# Altium footprint library Robot_2020.PcbLib: 89 footprints (part 2 of 6)
Each footprint in its own frame and in the unit in brackets; x right, y up, seen from the top. Pads: shape width x height; smd on the part's side, far side on the other; paste and mask are expansions set on the pad; w line width, h text height; cw(c..) or ccw(c..) is an arc to the next point about the centre after c.
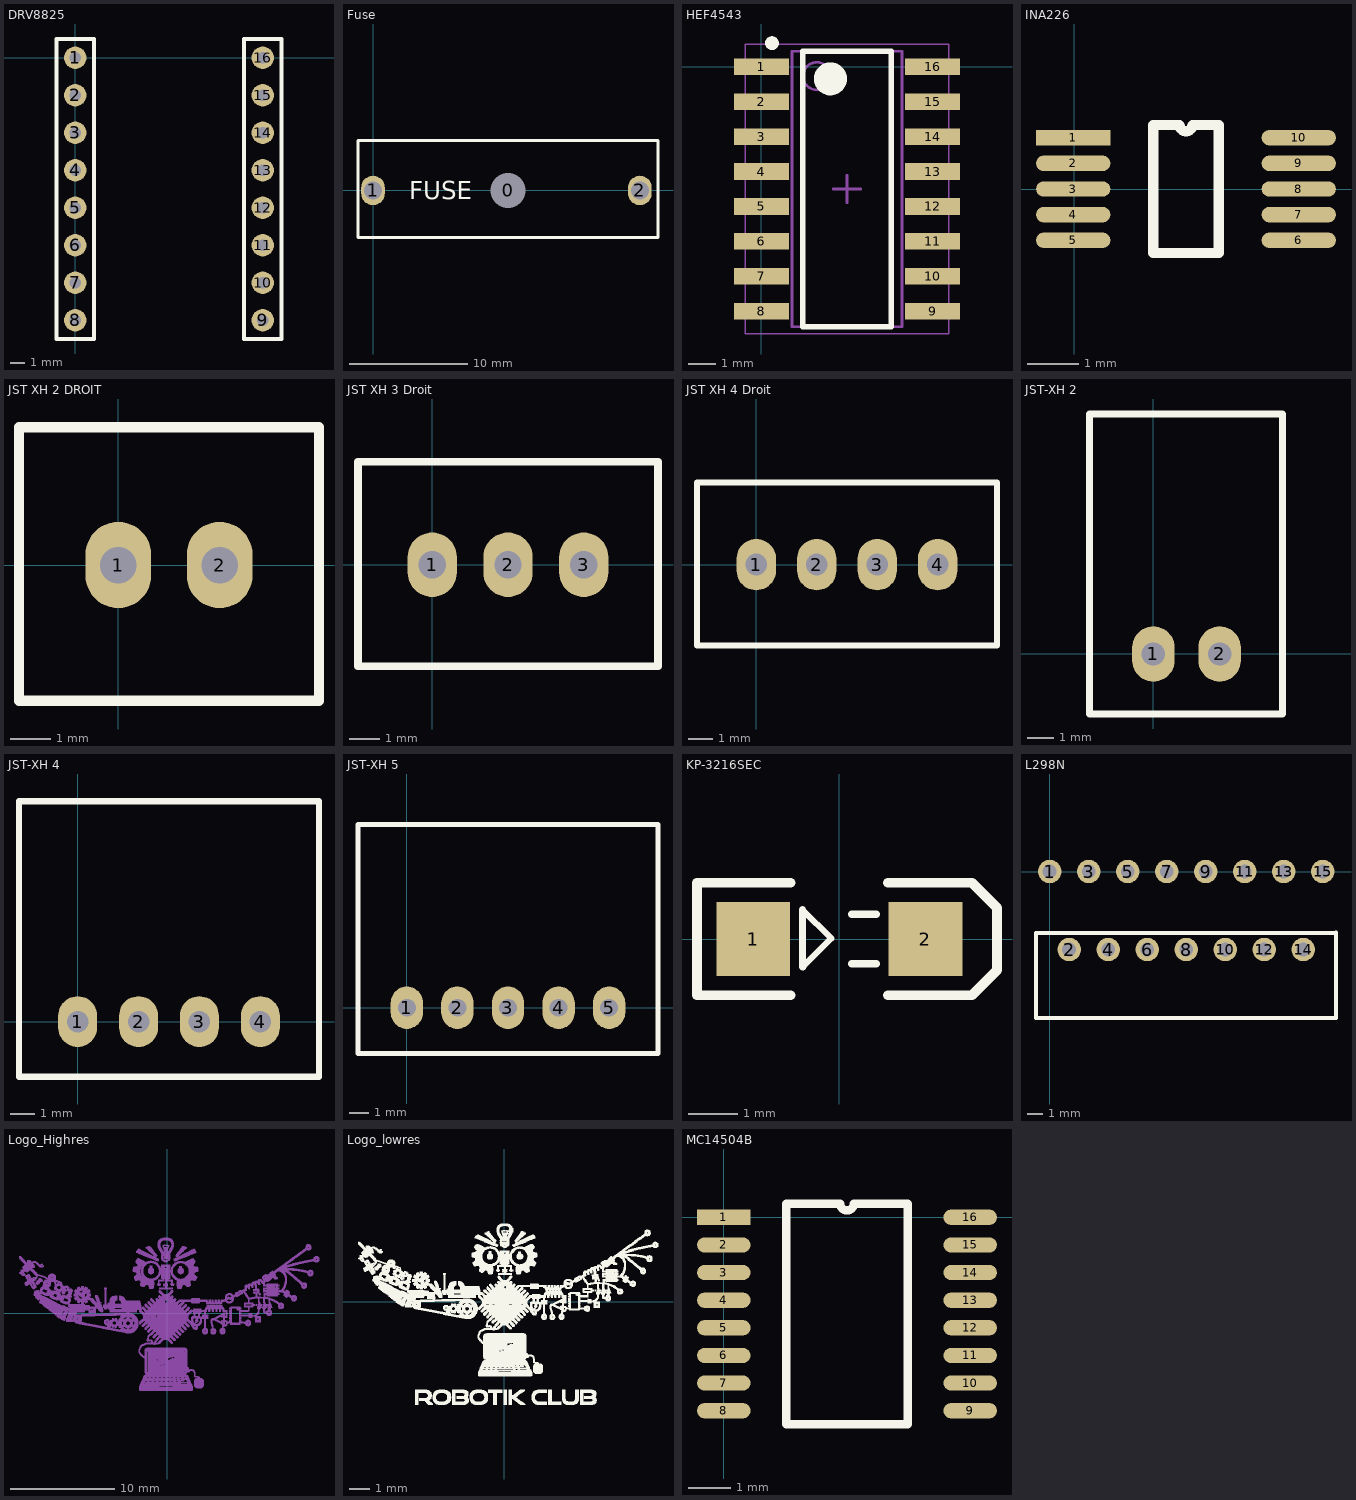
[diagram p1: the footprints below, top view; thin cyan lines are the x and y axes]

## DRV8825 [mil] "Stepper Driver"
pads (16):
  round 60 hole 31.5: 1(0,0) 2(0,-100) 3(0,-200) 4(0,-300) 5(0,-400) 6(0,-500) 7(0,-600) 8(0,-700) 9(500,-700) 10(500,-600) 11(500,-500) 12(500,-400) 13(500,-300) 14(500,-200) 15(500,-100) 16(500,0)
Top Overlay:
  lines w10: -50,-750 -50,50 50,50 50,-750 -50,-750 ; 450,-750 450,50 550,50 550,-750 450,-750
3D body "DRV8825_2.STEP": height 445.74, standoff 16.6, extent -45.72,-763.84 544.83,62.93
3D body: height 236.22, standoff 0, extent 450,-750 550,50
3D body: height 236.22, standoff 0, extent -50,-750 50,50

## Fuse [mm] "Porte-fusible monté sur circuit 10 (UL) A, 6.3 (VDE) A, fusible Cartouche, 893-0574"
height 13.5
pads (3):
  round 2 hole 3: 0(11.43,0)
  oval 2x2.5 hole 1.5: 1(0,0) 2(22.6,0)
Top Overlay:
  lines w0.254: -1.27,-4 24.13,-4 24.13,4.25 -1.27,4.25 -1.27,-4
  text "FUSE" at 3.048,-0.762 h1.52
3D body: height 10, standoff 4, extent 0.43,-3.048 22.43,2.952
3D body "FuseHolder.stp": height 11.41, standoff -3.54, extent -1.27,-4.064 6.858,4.286
3D body "FuseHolder.stp": height 11.41, standoff -3.54, extent 16.002,-4.286 24.13,4.064

## HEF4543 [mm] "SOP, 16-Leads, Body 9,90x3,90mm, Pitch 1,27mm, IPC Medium Density"
height 1.75
pads (16):
  rect 2x0.6 smd: 1(0,0) 2(0,-1.27) 3(0,-2.54) 4(0,-3.81) 5(0,-5.08) 6(0,-6.35) 7(0,-7.62) 8(0,-8.89) 9(6.212,-8.89) 10(6.212,-7.62) 11(6.212,-6.35) 12(6.212,-5.08) 13(6.212,-3.81) 14(6.212,-2.54) 15(6.212,-1.27) 16(6.212,0)
Top Overlay:
  circle w0.6: c2.506,-0.445 r0.3
  circle w0.25: c0.381,0.85 r0.125
  lines w0.2: 1.506,-9.445 4.706,-9.445 4.706,0.555 1.506,0.555 1.506,-9.445
Mechanical 13:
  circle w0.1: c2.006,-0.345 r0.5
  lines w0.1: 1.106,-9.445 5.106,-9.445 5.106,0.555 1.106,0.555 1.106,-9.445
Mechanical 15:
  lines w0.05: -0.594,-9.695 6.806,-9.695 6.806,0.805 -0.594,0.805 -0.594,-9.695
  lines w0.1: 2.606,-4.445 3.606,-4.445 ; 3.106,-4.945 3.106,-3.945
3D body: height 1.75, standoff 0.25, extent 1.106,-9.445 5.106,0.555

## INA226 [mm]
pads (10):
  rect 1.45x0.3 smd: 1(-0.025,1)
  oval 1.45x0.3 smd: 2(-0.025,0.5) 3(-0.025,0) 4(-0.025,-0.5) 5(-0.025,-1) 6(4.375,-1) 7(4.375,-0.5) 8(4.375,0) 9(4.375,0.5) 10(4.375,1)
Top Overlay:
  lines w0.2: 1.535,-1.25 1.535,1.25 2.05,1.25 ccw(c2.175,1.25) 2.3,1.25 2.815,1.25 2.815,-1.25 1.535,-1.25

## JST XH 2 DROIT [mm]
pads (2):
  oval 1.624x2.132 hole 0.9: 1(0,0) 2(2.5,0)
Top Overlay:
  lines w0.254: -2.45,-3.35 -2.45,3.4 4.95,3.4 4.95,-3.35 -2.45,-3.35

## JST XH 3 Droit [mm]
pads (3):
  oval 1.624x2.132 hole 0.9: 1(0,0) 2(2.5,0) 3(5,0)
Top Overlay:
  lines w0.254: -2.45,-3.35 -2.45,3.4 7.45,3.4 7.45,-3.35 -2.45,-3.35

## JST XH 4 Droit [mm]
pads (4):
  oval 1.624x2.132 hole 0.9: 1(0,0) 2(2.5,0) 3(5,0) 4(7.5,0)
Top Overlay:
  lines w0.254: -2.45,-3.35 9.95,-3.35 9.95,3.4 -2.45,3.4 -2.45,-3.35

## JST-XH 2 [mm]
pads (2):
  oval 1.624x2.132 hole 0.9: 1(0,0) 2(2.54,0)
Top Overlay:
  lines w0.254: -2.45,-2.3 -2.45,9.2 4.95,9.2 4.95,-2.3 -2.45,-2.3

## JST-XH 4 [mm]
pads (4):
  oval 1.624x2.132 hole 0.9: 1(0,0) 2(2.54,0) 3(5.08,0) 4(7.62,0)
Top Overlay:
  lines w0.254: -2.45,-2.3 10.07,-2.3 10.07,9.2 -2.45,9.2 -2.45,-2.3

## JST-XH 5 [mm]
pads (5):
  oval 1.624x2.132 hole 0.9: 1(0,0) 2(2.54,0) 3(5.08,0) 4(7.62,0) 5(10.16,0)
Top Overlay:
  lines w0.254: -2.45,-2.3 -2.45,9.2 12.61,9.2 12.61,-2.3 -2.45,-2.3

## KP-3216SEC [mm]
pads (2):
  rect 1.5x1.5 smd: 1(-1.75,0) 2(1.75,0)
Top Overlay:
  lines w0.127: -0.75,0.598 -0.165,0.013 -0.743,-0.565
  lines w0.15: -0.75,0.598 -0.75,-0.559 -0.743,-0.565 ; 0.25,-0.5 0.75,-0.5 ; 0.25,0.5 0.75,0.5
  lines w0.2: -0.988,-1.143 -2.893,-1.143 -2.893,1.143 -0.988,1.143 ; 0.988,-1.143 2.695,-1.143 3.203,-0.635 3.203,0.635 2.695,1.143 0.988,1.143
3D body "LED 1206 Yel.stp": height 1.1, standoff 0, extent -1.699,-0.787 1.501,0.813

## L298N [mil] "Motor driver, 2 channel"
pads (15):
  round 60 hole 35.43: 1(0,0) 2(50,-200) 3(100,0) 4(150,-200) 5(200,0) 6(250,-200) 7(300,0) 8(350,-200) 9(400,0) 10(450,-200) 11(500,0) 12(550,-200) 13(600,0) 14(650,-200) 15(700,0)
Top Overlay:
  lines w10: -35,-158 -35,-376 734,-376 734,-156 ; -35,-157.48 734,-157.48
3D body "L298_15P.STEP": height 846.46, standoff -140.75, extent -35.62,-379.33 736.03,10.04

## Logo_Highres [mil]
Bottom Overlay:
  drawing of 6573 lines, arcs and shapes, not listed

## Logo_lowres [mil]
Top Overlay:
  drawing of 3369 lines, arcs and shapes, not listed

## MAX 485 [mil] "Transceivers"

## MC14504B [mm]
pads (16):
  rect 1.26x0.36 smd: 1(0,0)
  oval 1.26x0.36 smd: 2(0,-0.65) 3(0,-1.3) 4(0,-1.95) 5(0,-2.6) 6(0,-3.25) 7(0,-3.9) 8(0,-4.55) 9(5.8,-4.55) 10(5.8,-3.9) 11(5.8,-3.25) 12(5.8,-2.6) 13(5.8,-1.95) 14(5.8,-1.3) 15(5.8,-0.65) 16(5.8,0)
Top Overlay:
  lines w0.2: 1.465,-4.875 1.465,0.325 2.738,0.325 ccw(c2.9,0.325) 3.062,0.325 4.335,0.325 4.335,-4.875 1.465,-4.875